# Altium schematic symbol library ReviewedComponents_20260912-233454.SchLib: 61 symbols (part 1 of 2)
Pins are listed as number, name and electrical type; pins without a type are passive.

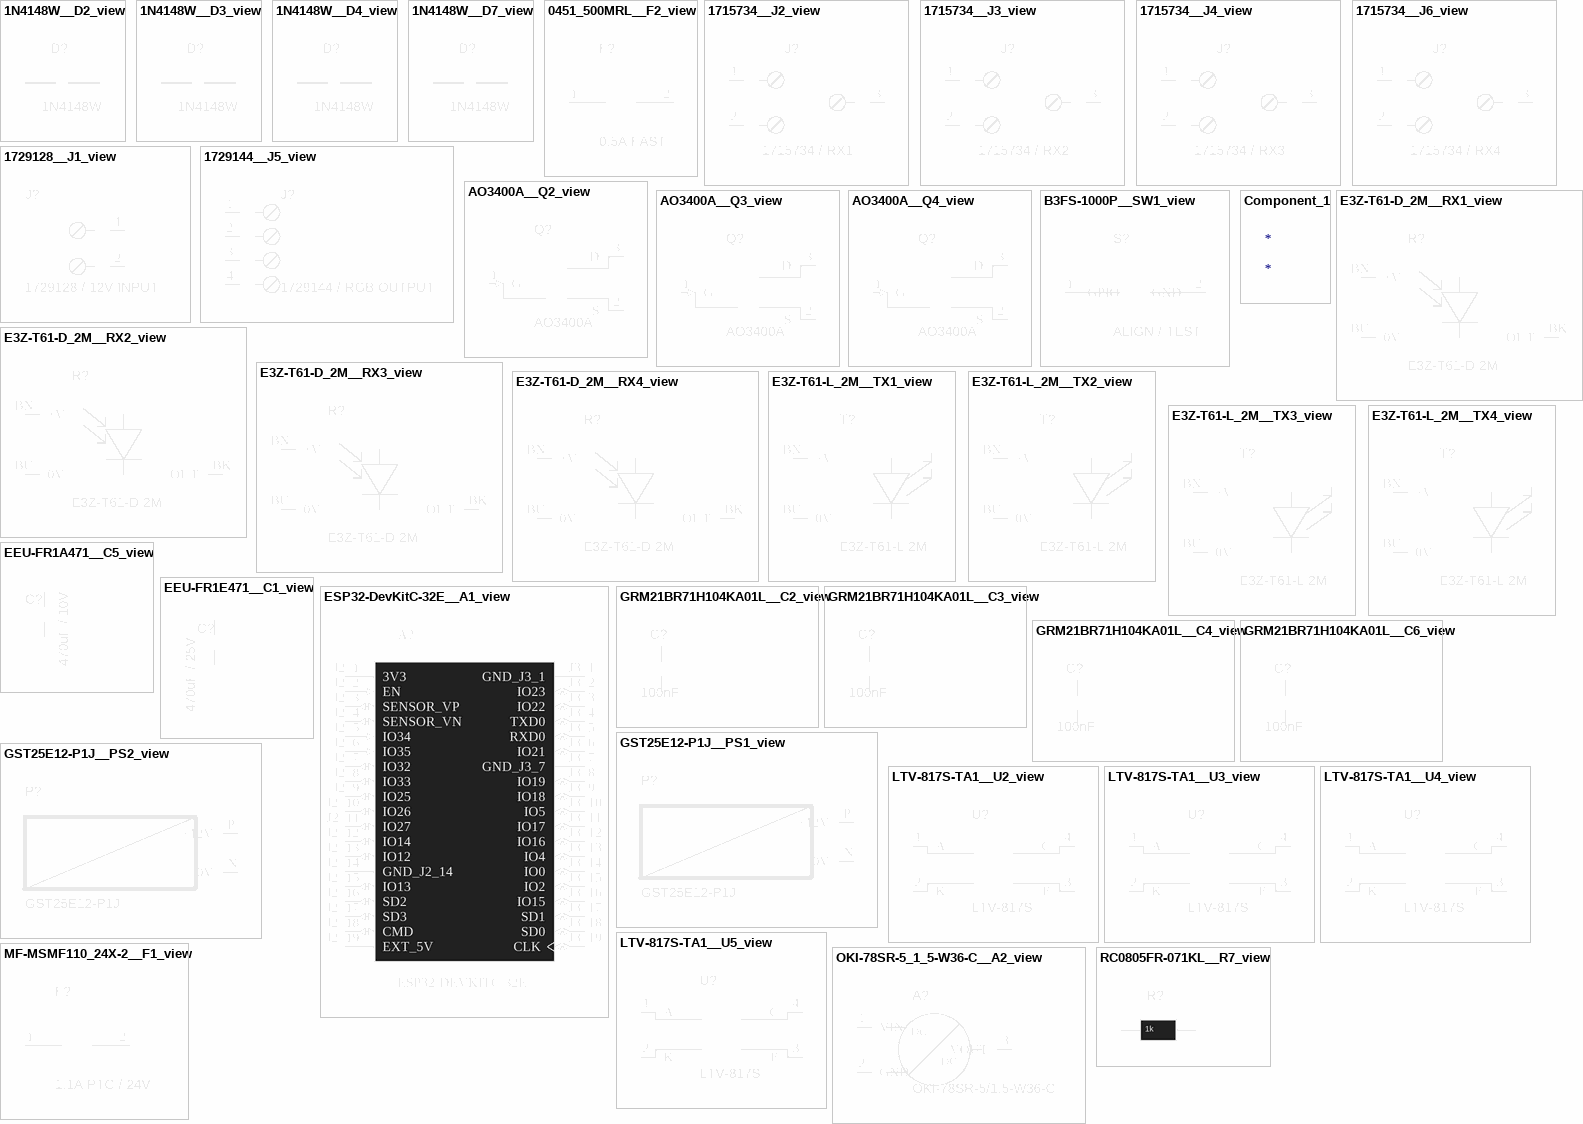
[diagram p0: symbols 1N4148W__D2_view to RC0805FR-071KL__R7_view]

## 1N4148W__D2_view
designator D?, comment 1N4148W
Reverse clamp: A to SIG; K to opto LED anode; Manufacturer: Nexperia; Symbol source: Celestial / Mark Harris / SCH - DIODES - DIODE.SCHLIB / Diode; Intended footprint: 1N4148W_SOD123_A1_K2; CAD status: Reusable reviewed symbol; pin/pad check performed by refresh. Native ERC, PCB ECO and 3D mechanical inspection still required.; Component refresh: 2026-09-10 sourced-symbol pass; not manufacturing release; Symbol adaptation: Import Celestial symbol artwork; retain physical pin identities and positions; lead extensions adapt the symbol to existing wiring.; Value: 1N4148W; Part Number: 1N4148W; Manufacturer Part Number: 1N4148W; Footprint source: Local PinRepairFootprints.PcbLib; source and polarity checked
footprint 1N4148W_SOD123_A1_K2
pins: 1 A, 2 K

## 1N4148W__D3_view
designator D?, comment 1N4148W
Reverse clamp: A to SIG; K to opto LED anode; Manufacturer: Nexperia; Symbol source: Celestial / Mark Harris / SCH - DIODES - DIODE.SCHLIB / Diode; Intended footprint: 1N4148W_SOD123_A1_K2; CAD status: Reusable reviewed symbol; pin/pad check performed by refresh. Native ERC, PCB ECO and 3D mechanical inspection still required.; Component refresh: 2026-09-10 sourced-symbol pass; not manufacturing release; Symbol adaptation: Import Celestial symbol artwork; retain physical pin identities and positions; lead extensions adapt the symbol to existing wiring.; Value: 1N4148W; Part Number: 1N4148W; Manufacturer Part Number: 1N4148W; Footprint source: Local PinRepairFootprints.PcbLib; source and polarity checked
footprint 1N4148W_SOD123_A1_K2
pins: 1 A, 2 K

## 1N4148W__D4_view
designator D?, comment 1N4148W
Reverse clamp: A to SIG; K to opto LED anode; Manufacturer: Nexperia; Symbol source: Celestial / Mark Harris / SCH - DIODES - DIODE.SCHLIB / Diode; Intended footprint: 1N4148W_SOD123_A1_K2; CAD status: Reusable reviewed symbol; pin/pad check performed by refresh. Native ERC, PCB ECO and 3D mechanical inspection still required.; Component refresh: 2026-09-10 sourced-symbol pass; not manufacturing release; Symbol adaptation: Import Celestial symbol artwork; retain physical pin identities and positions; lead extensions adapt the symbol to existing wiring.; Value: 1N4148W; Part Number: 1N4148W; Manufacturer Part Number: 1N4148W; Footprint source: Local PinRepairFootprints.PcbLib; source and polarity checked
footprint 1N4148W_SOD123_A1_K2
pins: 1 A, 2 K

## 1N4148W__D7_view
designator D?, comment 1N4148W
Reverse clamp: A to SIG; K to opto LED anode; Manufacturer: Nexperia; Symbol source: Celestial / Mark Harris / SCH - DIODES - DIODE.SCHLIB / Diode; Intended footprint: 1N4148W_SOD123_A1_K2; CAD status: Reusable reviewed symbol; pin/pad check performed by refresh. Native ERC, PCB ECO and 3D mechanical inspection still required.; Component refresh: 2026-09-10 sourced-symbol pass; not manufacturing release; Symbol adaptation: Import Celestial symbol artwork; retain physical pin identities and positions; lead extensions adapt the symbol to existing wiring.; Value: 1N4148W; Part Number: 1N4148W; Manufacturer Part Number: 1N4148W; Footprint source: Local PinRepairFootprints.PcbLib; source and polarity checked
footprint 1N4148W_SOD123_A1_K2
pins: 1 A, 2 K

## 0451_500MRL__F2_view
designator F?, comment 0.5A FAST
RGB cable branch fuse; verify fault clearing with selected supply; Manufacturer: Littelfuse; Manufacturer Part Number: 0451.500MRL; Populate: Yes; Intended footprint: LITTELFUSE_0451_2410; CAD status: Reusable reviewed symbol; pin/pad check performed by refresh. Native ERC, PCB ECO and 3D mechanical inspection still required.; Value: 0451.500MRL; Component refresh: 2026-09-10 sourced-symbol pass; not manufacturing release; Symbol source: Celestial / Mark Harris / SCH - FUSE - MOUNTED FUSE.Schlib / MOUNTED FUSE; Symbol adaptation: Import Celestial symbol artwork; retain physical pin identities and positions; lead extensions adapt the symbol to existing wiring.; Package: FUSE_2410; Footprint source: Local PinRepairFootprints.PcbLib; source and polarity checked; Part Number: 0451.500MRL
footprint LITTELFUSE_0451_2410
pins: 1, 2

## 1715734__J2_view
designator J?, comment 1715734 / RX1
12V / GND / NPN signal terminal; Manufacturer: Phoenix Contact; Populate: Yes; Intended footprint: PHOENIX_1715734_MKDS_3_508; CAD status: Reusable reviewed symbol; pin/pad check performed by refresh. Native ERC, PCB ECO and 3D mechanical inspection still required.; Wiring: 1 brown +12V; 2 blue 0V; 3 black NPN output; Symbol provenance: Project-authored native Altium library; based on identified manufacturer part and pinout, not vendor-issued CAD; Component refresh: 2026-09-10 sourced-symbol pass; not manufacturing release; Symbol adaptation: Keep existing part-specific symbol; package and procurement metadata retained.; Manufacturer Part Number: 1715734; Package: MKDS 1,5/3-5,08; Datasheet: https://www.phoenixcontact.com/en-us/products/printed-circuit-board-terminal-mkds-15-3-508-1715734; Part Number: 1715734; Value: 1715734
footprint PHOENIX_1715734_MKDS_3_508
pins: 1 +12V, 2 0V, 3 OUT

## 1715734__J3_view
designator J?, comment 1715734 / RX2
12V / GND / NPN signal terminal; Manufacturer: Phoenix Contact; Populate: Yes; Intended footprint: PHOENIX_1715734_MKDS_3_508; CAD status: Reusable reviewed symbol; pin/pad check performed by refresh. Native ERC, PCB ECO and 3D mechanical inspection still required.; Wiring: 1 brown +12V; 2 blue 0V; 3 black NPN output; Symbol provenance: Project-authored native Altium library; based on identified manufacturer part and pinout, not vendor-issued CAD; Component refresh: 2026-09-10 sourced-symbol pass; not manufacturing release; Symbol adaptation: Keep existing part-specific symbol; package and procurement metadata retained.; Manufacturer Part Number: 1715734; Package: MKDS 1,5/3-5,08; Datasheet: https://www.phoenixcontact.com/en-us/products/printed-circuit-board-terminal-mkds-15-3-508-1715734; Part Number: 1715734; Value: 1715734
footprint PHOENIX_1715734_MKDS_3_508
pins: 1 +12V, 2 0V, 3 OUT

## 1715734__J4_view
designator J?, comment 1715734 / RX3
12V / GND / NPN signal terminal; Manufacturer: Phoenix Contact; Populate: Yes; Intended footprint: PHOENIX_1715734_MKDS_3_508; CAD status: Reusable reviewed symbol; pin/pad check performed by refresh. Native ERC, PCB ECO and 3D mechanical inspection still required.; Wiring: 1 brown +12V; 2 blue 0V; 3 black NPN output; Symbol provenance: Project-authored native Altium library; based on identified manufacturer part and pinout, not vendor-issued CAD; Component refresh: 2026-09-10 sourced-symbol pass; not manufacturing release; Symbol adaptation: Keep existing part-specific symbol; package and procurement metadata retained.; Manufacturer Part Number: 1715734; Package: MKDS 1,5/3-5,08; Datasheet: https://www.phoenixcontact.com/en-us/products/printed-circuit-board-terminal-mkds-15-3-508-1715734; Part Number: 1715734; Value: 1715734
footprint PHOENIX_1715734_MKDS_3_508
pins: 1 +12V, 2 0V, 3 OUT

## 1715734__J6_view
designator J?, comment 1715734 / RX4
12V / GND / NPN signal terminal; Manufacturer: Phoenix Contact; Populate: Yes; Intended footprint: PHOENIX_1715734_MKDS_3_508; CAD status: Reusable reviewed symbol; pin/pad check performed by refresh. Native ERC, PCB ECO and 3D mechanical inspection still required.; Wiring: 1 brown +12V; 2 blue 0V; 3 black NPN output; Symbol provenance: Project-authored native Altium library; based on identified manufacturer part and pinout, not vendor-issued CAD; Component refresh: 2026-09-10 sourced-symbol pass; not manufacturing release; Symbol adaptation: Keep existing part-specific symbol; package and procurement metadata retained.; Manufacturer Part Number: 1715734; Package: MKDS 1,5/3-5,08; Datasheet: https://www.phoenixcontact.com/en-us/products/printed-circuit-board-terminal-mkds-15-3-508-1715734; Part Number: 1715734; Value: 1715734
footprint PHOENIX_1715734_MKDS_3_508
pins: 1 +12V, 2 0V, 3 OUT

## 1729128__J1_view
designator J?, comment 1729128 / 12V INPUT
Two-position 5.08 mm screw terminal; Manufacturer: Phoenix Contact; Populate: Yes; Intended footprint: PHOENIX_1729128_MKDSN_2_508; CAD status: Reusable reviewed symbol; pin/pad check performed by refresh. Native ERC, PCB ECO and 3D mechanical inspection still required.; Symbol provenance: Project-authored native Altium library; based on identified manufacturer part and pinout, not vendor-issued CAD; Component refresh: 2026-09-10 sourced-symbol pass; not manufacturing release; Symbol adaptation: Keep existing part-specific symbol; package and procurement metadata retained.; Manufacturer Part Number: 1729128; Package: TERM_2_508; Part Number: 1729128; Value: 1729128
footprint PHOENIX_1729128_MKDSN_2_508
pins: 1 +12V (power), 2 0V (power)

## 1729144__J5_view
designator J?, comment 1729144 / RGB OUTPUT
Common-anode analogue RGB strip; NOT addressable; Manufacturer: Phoenix Contact; Populate: Yes; Intended footprint: PHOENIX_1729144_MKDSN_4_508; CAD status: Reusable reviewed symbol; pin/pad check performed by refresh. Native ERC, PCB ECO and 3D mechanical inspection still required.; Symbol provenance: Project-authored native Altium library; based on identified manufacturer part and pinout, not vendor-issued CAD; Component refresh: 2026-09-10 sourced-symbol pass; not manufacturing release; Symbol adaptation: Keep existing part-specific symbol; package and procurement metadata retained.; Manufacturer Part Number: 1729144; Package: TERM_4_508; Part Number: 1729144; Value: 1729144
footprint PHOENIX_1729144_MKDSN_4_508
pins: 1 +12V (power), 2 R-, 3 G-, 4 B-

## AO3400A__Q2_view
designator Q?, comment AO3400A
30V NMOS; Rds(on) specified at Vgs=2.5V; limit load to 250mA/channel; Manufacturer: Alpha and Omega Semiconductor; Populate: Yes; Intended footprint: AO3400A_G1_S2_D3; CAD status: Reusable reviewed symbol; pin/pad check performed by refresh. Native ERC, PCB ECO and 3D mechanical inspection still required.; 3D asset: lib/upstream-kicad/SOT-23.step; downloaded, native link pending; Component refresh: 2026-09-10 sourced-symbol pass; not manufacturing release; Symbol source: Celestial / Mark Harris / SCH - FET - N-CH - MOSFET SINGLE GDS.SCHLIB / MOSFET SINGLE GDS; Symbol adaptation: Import Celestial symbol artwork; retain physical pin identities and positions; lead extensions adapt the symbol to existing wiring.; Manufacturer Part Number: AO3400A; Package: Package_TO_SOT_SMD:SOT-23; Datasheet: https://www.aosmd.com/sites/default/files/res/datasheets/AO3400A.pdf; Footprint source: Local PinRepairFootprints.PcbLib; source and polarity checked; Part Number: AO3400A; Value: AO3400A
footprint AO3400A_G1_S2_D3
pins: 1 G (in), 2 S, 3 D

## AO3400A__Q3_view
designator Q?, comment AO3400A
30V NMOS; Rds(on) specified at Vgs=2.5V; limit load to 250mA/channel; Manufacturer: Alpha and Omega Semiconductor; Populate: Yes; Intended footprint: AO3400A_G1_S2_D3; CAD status: Reusable reviewed symbol; pin/pad check performed by refresh. Native ERC, PCB ECO and 3D mechanical inspection still required.; 3D asset: lib/upstream-kicad/SOT-23.step; downloaded, native link pending; Component refresh: 2026-09-10 sourced-symbol pass; not manufacturing release; Symbol source: Celestial / Mark Harris / SCH - FET - N-CH - MOSFET SINGLE GDS.SCHLIB / MOSFET SINGLE GDS; Symbol adaptation: Import Celestial symbol artwork; retain physical pin identities and positions; lead extensions adapt the symbol to existing wiring.; Manufacturer Part Number: AO3400A; Package: Package_TO_SOT_SMD:SOT-23; Datasheet: https://www.aosmd.com/sites/default/files/res/datasheets/AO3400A.pdf; Footprint source: Local PinRepairFootprints.PcbLib; source and polarity checked; Part Number: AO3400A; Value: AO3400A
footprint AO3400A_G1_S2_D3
pins: 1 G (in), 2 S, 3 D

## AO3400A__Q4_view
designator Q?, comment AO3400A
30V NMOS; Rds(on) specified at Vgs=2.5V; limit load to 250mA/channel; Manufacturer: Alpha and Omega Semiconductor; Populate: Yes; Intended footprint: AO3400A_G1_S2_D3; CAD status: Reusable reviewed symbol; pin/pad check performed by refresh. Native ERC, PCB ECO and 3D mechanical inspection still required.; 3D asset: lib/upstream-kicad/SOT-23.step; downloaded, native link pending; Component refresh: 2026-09-10 sourced-symbol pass; not manufacturing release; Symbol source: Celestial / Mark Harris / SCH - FET - N-CH - MOSFET SINGLE GDS.SCHLIB / MOSFET SINGLE GDS; Symbol adaptation: Import Celestial symbol artwork; retain physical pin identities and positions; lead extensions adapt the symbol to existing wiring.; Manufacturer Part Number: AO3400A; Package: Package_TO_SOT_SMD:SOT-23; Datasheet: https://www.aosmd.com/sites/default/files/res/datasheets/AO3400A.pdf; Footprint source: Local PinRepairFootprints.PcbLib; source and polarity checked; Part Number: AO3400A; Value: AO3400A
footprint AO3400A_G1_S2_D3
pins: 1 G (in), 2 S, 3 D

## B3FS-1000P__SW1_view
designator S?, comment ALIGN / TEST
Momentary test switch; Manufacturer: Omron; Manufacturer Part Number: B3FS-1000P; Populate: Yes; Intended footprint: OMRON_B3FS1000P_LOGICAL_1_2; CAD status: Reusable reviewed symbol; pin/pad check performed by refresh. Native ERC, PCB ECO and 3D mechanical inspection still required.; Value: B3FS-1000P; Component refresh: 2026-09-10 sourced-symbol pass; not manufacturing release; Symbol source: Celestial / Mark Harris / SCH - SWITCH - SPST 2PIN.SCHLIB / SPST 2PIN; Symbol adaptation: Import Celestial symbol artwork; retain physical pin identities and positions; lead extensions adapt the symbol to existing wiring.; Package: SW_SMD_6X6; Footprint source: Local PinRepairFootprints.PcbLib; source and polarity checked; Part Number: B3FS-1000P
footprint OMRON_B3FS1000P_LOGICAL_1_2
pins: 1 GPIO, 2 GND

## Component_1
designator *

## E3Z-T61-D_2M__RX1_view
designator R?, comment E3Z-T61-D 2M  (graphical)
RECEIVER / NPN LIGHT-ON; purchased in E3Z-T61 2M pair; frame-mounted, not PCB-mounted; Manufacturer: Omron; Populate: Yes; Intended footprint: NONE - external wired device; CAD status: External equipment symbol: no controller-PCB pads; mechanical CAD remains unverified.; Cable: Integral 2 m cable; BN brown +V / BU blue 0V / receiver BK black OUT; Supply: 12-24 VDC nominal; use regulated 12 V; BOM note: Buy one E3Z-T61 2M pair per TX/RX pair, not two pairs; Symbol representation: Complete powered photoelectric head; optical glyph is functional, not a bare discrete diode; Symbol provenance: Project-authored native Altium library; based on identified manufacturer part and pinout, not vendor-issued CAD; Assembly location: External installation; not mounted on controller PCB; Procurement list: docs/PIN_REPAIR.html - external hardware; Component refresh: 2026-09-10 sourced-symbol pass; not manufacturing release; Symbol adaptation: Keep existing part-specific symbol; package and procurement metadata retained. External equipment: deliberately no PCB footprint. Manufacturer mechanical CAD remains separate/unverified.; Manufacturer Part Number: E3Z-T61-D 2M; Package: EXTERNAL CABLED HEAD; Order as pair: E3Z-T61 2M; Body dimensions mm: 10.8 W x 31 H x 20 D; Mounting: Two M3 holes at 25.4 mm centres; optical face toward opposite upright; Datasheet: https://industrial.omron.eu/en/products/E3Z-T61-2M; 3D download: https://download.ia.omron.com/download/zip/ST/OEE/E3Z_T61/; Part Number: E3Z-T61-D 2M; Value: E3Z-T61-D 2M; Valor: E3Z-T61-D 2M
pins: BK OUT, BN +V, BU 0V

## E3Z-T61-D_2M__RX2_view
designator R?, comment E3Z-T61-D 2M  (graphical)
RECEIVER / NPN LIGHT-ON; purchased in E3Z-T61 2M pair; frame-mounted, not PCB-mounted; Manufacturer: Omron; Populate: Yes; Intended footprint: NONE - external wired device; CAD status: External equipment symbol: no controller-PCB pads; mechanical CAD remains unverified.; Cable: Integral 2 m cable; BN brown +V / BU blue 0V / receiver BK black OUT; Supply: 12-24 VDC nominal; use regulated 12 V; BOM note: Buy one E3Z-T61 2M pair per TX/RX pair, not two pairs; Symbol representation: Complete powered photoelectric head; optical glyph is functional, not a bare discrete diode; Symbol provenance: Project-authored native Altium library; based on identified manufacturer part and pinout, not vendor-issued CAD; Assembly location: External installation; not mounted on controller PCB; Procurement list: docs/PIN_REPAIR.html - external hardware; Component refresh: 2026-09-10 sourced-symbol pass; not manufacturing release; Symbol adaptation: Keep existing part-specific symbol; package and procurement metadata retained. External equipment: deliberately no PCB footprint. Manufacturer mechanical CAD remains separate/unverified.; Manufacturer Part Number: E3Z-T61-D 2M; Package: EXTERNAL CABLED HEAD; Order as pair: E3Z-T61 2M; Body dimensions mm: 10.8 W x 31 H x 20 D; Mounting: Two M3 holes at 25.4 mm centres; optical face toward opposite upright; Datasheet: https://industrial.omron.eu/en/products/E3Z-T61-2M; 3D download: https://download.ia.omron.com/download/zip/ST/OEE/E3Z_T61/; Part Number: E3Z-T61-D 2M; Value: E3Z-T61-D 2M; Valor: E3Z-T61-D 2M
pins: BK OUT, BN +V, BU 0V

## E3Z-T61-D_2M__RX3_view
designator R?, comment E3Z-T61-D 2M  (graphical)
RECEIVER / NPN LIGHT-ON; purchased in E3Z-T61 2M pair; frame-mounted, not PCB-mounted; Manufacturer: Omron; Populate: Yes; Intended footprint: NONE - external wired device; CAD status: External equipment symbol: no controller-PCB pads; mechanical CAD remains unverified.; Cable: Integral 2 m cable; BN brown +V / BU blue 0V / receiver BK black OUT; Supply: 12-24 VDC nominal; use regulated 12 V; BOM note: Buy one E3Z-T61 2M pair per TX/RX pair, not two pairs; Symbol representation: Complete powered photoelectric head; optical glyph is functional, not a bare discrete diode; Symbol provenance: Project-authored native Altium library; based on identified manufacturer part and pinout, not vendor-issued CAD; Assembly location: External installation; not mounted on controller PCB; Procurement list: docs/PIN_REPAIR.html - external hardware; Component refresh: 2026-09-10 sourced-symbol pass; not manufacturing release; Symbol adaptation: Keep existing part-specific symbol; package and procurement metadata retained. External equipment: deliberately no PCB footprint. Manufacturer mechanical CAD remains separate/unverified.; Manufacturer Part Number: E3Z-T61-D 2M; Package: EXTERNAL CABLED HEAD; Order as pair: E3Z-T61 2M; Body dimensions mm: 10.8 W x 31 H x 20 D; Mounting: Two M3 holes at 25.4 mm centres; optical face toward opposite upright; Datasheet: https://industrial.omron.eu/en/products/E3Z-T61-2M; 3D download: https://download.ia.omron.com/download/zip/ST/OEE/E3Z_T61/; Part Number: E3Z-T61-D 2M; Value: E3Z-T61-D 2M; Valor: E3Z-T61-D 2M
pins: BK OUT, BN +V, BU 0V

## E3Z-T61-D_2M__RX4_view
designator R?, comment E3Z-T61-D 2M  (graphical)
RECEIVER / NPN LIGHT-ON; purchased in E3Z-T61 2M pair; frame-mounted, not PCB-mounted; Manufacturer: Omron; Populate: Optional channel 4; Intended footprint: NONE - external wired device; CAD status: External equipment symbol: no controller-PCB pads; mechanical CAD remains unverified.; Cable: Integral 2 m cable; BN brown +V / BU blue 0V / receiver BK black OUT; Supply: 12-24 VDC nominal; use regulated 12 V; BOM note: Buy one E3Z-T61 2M pair per TX/RX pair, not two pairs; Symbol representation: Complete powered photoelectric head; optical glyph is functional, not a bare discrete diode; Symbol provenance: Project-authored native Altium library; based on identified manufacturer part and pinout, not vendor-issued CAD; Assembly location: External installation; not mounted on controller PCB; Procurement list: docs/PIN_REPAIR.html - external hardware; Component refresh: 2026-09-10 sourced-symbol pass; not manufacturing release; Symbol adaptation: Keep existing part-specific symbol; package and procurement metadata retained. External equipment: deliberately no PCB footprint. Manufacturer mechanical CAD remains separate/unverified.; Manufacturer Part Number: E3Z-T61-D 2M; Package: EXTERNAL CABLED HEAD; Order as pair: E3Z-T61 2M; Body dimensions mm: 10.8 W x 31 H x 20 D; Mounting: Two M3 holes at 25.4 mm centres; optical face toward opposite upright; Datasheet: https://industrial.omron.eu/en/products/E3Z-T61-2M; 3D download: https://download.ia.omron.com/download/zip/ST/OEE/E3Z_T61/; Part Number: E3Z-T61-D 2M; Value: E3Z-T61-D 2M; Valor: E3Z-T61-D 2M
pins: BK OUT, BN +V, BU 0V

## E3Z-T61-L_2M__TX1_view
designator T?, comment E3Z-T61-L 2M  (graphical)
EMITTER; purchased in E3Z-T61 2M pair; frame-mounted, not PCB-mounted; Manufacturer: Omron; Populate: Yes; Intended footprint: NONE - external wired device; CAD status: External equipment symbol: no controller-PCB pads; mechanical CAD remains unverified.; Cable: Integral 2 m cable; BN brown +V / BU blue 0V / receiver BK black OUT; Supply: 12-24 VDC nominal; use regulated 12 V; BOM note: Buy one E3Z-T61 2M pair per TX/RX pair, not two pairs; Symbol representation: Complete powered photoelectric head; optical glyph is functional, not a bare discrete diode; Symbol provenance: Project-authored native Altium library; based on identified manufacturer part and pinout, not vendor-issued CAD; Assembly location: External installation; not mounted on controller PCB; Procurement list: docs/PIN_REPAIR.html - external hardware; Component refresh: 2026-09-10 sourced-symbol pass; not manufacturing release; Symbol adaptation: Keep existing part-specific symbol; package and procurement metadata retained. External equipment: deliberately no PCB footprint. Manufacturer mechanical CAD remains separate/unverified.; Manufacturer Part Number: E3Z-T61-L 2M; Package: EXTERNAL CABLED HEAD; Order as pair: E3Z-T61 2M; Body dimensions mm: 10.8 W x 31 H x 20 D; Mounting: Two M3 holes at 25.4 mm centres; optical face toward opposite upright; Datasheet: https://industrial.omron.eu/en/products/E3Z-T61-2M; 3D download: https://download.ia.omron.com/download/zip/ST/OEE/E3Z_T61/; Part Number: E3Z-T61-L 2M; Value: E3Z-T61-L 2M
pins: BN +V, BU 0V

## E3Z-T61-L_2M__TX2_view
designator T?, comment E3Z-T61-L 2M  (graphical)
EMITTER; purchased in E3Z-T61 2M pair; frame-mounted, not PCB-mounted; Manufacturer: Omron; Populate: Yes; Intended footprint: NONE - external wired device; CAD status: External equipment symbol: no controller-PCB pads; mechanical CAD remains unverified.; Cable: Integral 2 m cable; BN brown +V / BU blue 0V / receiver BK black OUT; Supply: 12-24 VDC nominal; use regulated 12 V; BOM note: Buy one E3Z-T61 2M pair per TX/RX pair, not two pairs; Symbol representation: Complete powered photoelectric head; optical glyph is functional, not a bare discrete diode; Symbol provenance: Project-authored native Altium library; based on identified manufacturer part and pinout, not vendor-issued CAD; Assembly location: External installation; not mounted on controller PCB; Procurement list: docs/PIN_REPAIR.html - external hardware; Component refresh: 2026-09-10 sourced-symbol pass; not manufacturing release; Symbol adaptation: Keep existing part-specific symbol; package and procurement metadata retained. External equipment: deliberately no PCB footprint. Manufacturer mechanical CAD remains separate/unverified.; Manufacturer Part Number: E3Z-T61-L 2M; Package: EXTERNAL CABLED HEAD; Order as pair: E3Z-T61 2M; Body dimensions mm: 10.8 W x 31 H x 20 D; Mounting: Two M3 holes at 25.4 mm centres; optical face toward opposite upright; Datasheet: https://industrial.omron.eu/en/products/E3Z-T61-2M; 3D download: https://download.ia.omron.com/download/zip/ST/OEE/E3Z_T61/; Part Number: E3Z-T61-L 2M; Value: E3Z-T61-L 2M
pins: BN +V, BU 0V

## E3Z-T61-L_2M__TX3_view
designator T?, comment E3Z-T61-L 2M  (graphical)
EMITTER; purchased in E3Z-T61 2M pair; frame-mounted, not PCB-mounted; Manufacturer: Omron; Populate: Yes; Intended footprint: NONE - external wired device; CAD status: External equipment symbol: no controller-PCB pads; mechanical CAD remains unverified.; Cable: Integral 2 m cable; BN brown +V / BU blue 0V / receiver BK black OUT; Supply: 12-24 VDC nominal; use regulated 12 V; BOM note: Buy one E3Z-T61 2M pair per TX/RX pair, not two pairs; Symbol representation: Complete powered photoelectric head; optical glyph is functional, not a bare discrete diode; Symbol provenance: Project-authored native Altium library; based on identified manufacturer part and pinout, not vendor-issued CAD; Assembly location: External installation; not mounted on controller PCB; Procurement list: docs/PIN_REPAIR.html - external hardware; Component refresh: 2026-09-10 sourced-symbol pass; not manufacturing release; Symbol adaptation: Keep existing part-specific symbol; package and procurement metadata retained. External equipment: deliberately no PCB footprint. Manufacturer mechanical CAD remains separate/unverified.; Manufacturer Part Number: E3Z-T61-L 2M; Package: EXTERNAL CABLED HEAD; Order as pair: E3Z-T61 2M; Body dimensions mm: 10.8 W x 31 H x 20 D; Mounting: Two M3 holes at 25.4 mm centres; optical face toward opposite upright; Datasheet: https://industrial.omron.eu/en/products/E3Z-T61-2M; 3D download: https://download.ia.omron.com/download/zip/ST/OEE/E3Z_T61/; Part Number: E3Z-T61-L 2M; Value: E3Z-T61-L 2M
pins: BN +V, BU 0V

## E3Z-T61-L_2M__TX4_view
designator T?, comment E3Z-T61-L 2M  (graphical)
EMITTER; purchased in E3Z-T61 2M pair; frame-mounted, not PCB-mounted; Manufacturer: Omron; Populate: Optional channel 4; Intended footprint: NONE - external wired device; CAD status: External equipment symbol: no controller-PCB pads; mechanical CAD remains unverified.; Cable: Integral 2 m cable; BN brown +V / BU blue 0V / receiver BK black OUT; Supply: 12-24 VDC nominal; use regulated 12 V; BOM note: Buy one E3Z-T61 2M pair per TX/RX pair, not two pairs; Symbol representation: Complete powered photoelectric head; optical glyph is functional, not a bare discrete diode; Symbol provenance: Project-authored native Altium library; based on identified manufacturer part and pinout, not vendor-issued CAD; Assembly location: External installation; not mounted on controller PCB; Procurement list: docs/PIN_REPAIR.html - external hardware; Component refresh: 2026-09-10 sourced-symbol pass; not manufacturing release; Symbol adaptation: Keep existing part-specific symbol; package and procurement metadata retained. External equipment: deliberately no PCB footprint. Manufacturer mechanical CAD remains separate/unverified.; Manufacturer Part Number: E3Z-T61-L 2M; Package: EXTERNAL CABLED HEAD; Order as pair: E3Z-T61 2M; Body dimensions mm: 10.8 W x 31 H x 20 D; Mounting: Two M3 holes at 25.4 mm centres; optical face toward opposite upright; Datasheet: https://industrial.omron.eu/en/products/E3Z-T61-2M; 3D download: https://download.ia.omron.com/download/zip/ST/OEE/E3Z_T61/; Part Number: E3Z-T61-L 2M; Value: E3Z-T61-L 2M
pins: BN +V, BU 0V

## EEU-FR1A471__C5_view
designator C?, comment 470uF / 10V
ESP32 Wi-Fi peak-current reservoir; Part Number: EEU-FR1A471; Manufacturer: Panasonic; Symbol source: Celestial / Mark Harris / SCH - PASSIVES - POLARISED CAPACITOR.SCHLIB / Polarised Capacitor; Intended footprint: PANASONIC_EEUFR1A471_D8_P3_5; CAD status: Reusable reviewed symbol; pin/pad check performed by refresh. Native ERC, PCB ECO and 3D mechanical inspection still required.; Polarity: Pin 1 positive; pin 2 negative; Component refresh: 2026-09-10 sourced-symbol pass; not manufacturing release; Symbol adaptation: Import Celestial symbol artwork; retain physical pin identities and positions; lead extensions adapt the symbol to existing wiring.; Valor: 470uF / 10V; Manufacturer Part Number: EEU-FR1A471; Footprint source: Local PinRepairFootprints.PcbLib; source and polarity checked; Value: 470uF / 10V
footprint PANASONIC_EEUFR1A471_D8_P3_5
pins: 1, 2
1 alternate drawing of the same symbol

## EEU-FR1E471__C1_view
designator C?, comment 470uF / 25V
Protected 12 V bulk capacitor; Part Number: EEU-FR1E471; Manufacturer: Panasonic; Symbol source: Celestial / Mark Harris / SCH - PASSIVES - POLARISED CAPACITOR.SCHLIB / Polarised Capacitor; Intended footprint: PANASONIC_EEUFR1E471_D10_P5; CAD status: Reusable reviewed symbol; pin/pad check performed by refresh. Native ERC, PCB ECO and 3D mechanical inspection still required.; Polarity: Pin 1 positive; pin 2 negative; Component refresh: 2026-09-10 sourced-symbol pass; not manufacturing release; Symbol adaptation: Import Celestial symbol artwork; retain physical pin identities and positions; lead extensions adapt the symbol to existing wiring.; Valor: 470uF / 25V; Manufacturer Part Number: EEU-FR1E471; Footprint source: Local PinRepairFootprints.PcbLib; source and polarity checked; Value: 470uF / 25V
footprint PANASONIC_EEUFR1E471_D10_P5
pins: 1, 2
1 alternate drawing of the same symbol

## ESP32-DevKitC-32E__A1_view
designator A?, comment ESP32-DEVKITC-32E
The ESP32-DEVKITC-32E transceiver evaluation board from Espressif Systems is a powerful development tool for wireless communication technologies. It supports 802.11 b/g/n Wi-Fi and BluetoothÂ® Smart Ready 4.x (BLE) dual-mode at 2.4GHz, making it ideal for; CAD status: Reusable reviewed symbol; pin/pad check performed by refresh. Native ERC, PCB ECO and 3D mechanical inspection still required.; Component refresh: 2026-09-10 sourced-symbol pass; not manufacturing release; Intended footprint: MODULE_ESP32-DEVKITC-32E; Symbol adaptation: Keep existing part-specific symbol; package and procurement metadata retained.; SnapEDA_Link: https://www.snapeda.com/parts/ESP32-DEVKITC-32E/Espressif+Systems/view-part/?ref=snap; Package: None; Value: ESP32-DevKitC-32E; MF: Espressif Systems; MP: ESP32-DEVKITC-32E; Check_prices: https://www.snapeda.com/parts/ESP32-DEVKITC-32E/Espressif+Systems/view-part/?ref=eda; Manufacturer: Espressif Systems; Manufacturer Part Number: ESP32-DevKitC-32E; Part Number: ESP32-DevKitC-32E
footprint MODULE_ESP32-DEVKITC-32E
pins: J2_1 3V3 (power), J2_2 EN (in), J2_3 SENSOR_VP (io), J2_4 SENSOR_VN (io), J2_5 IO34 (in), J2_6 IO35 (in), J2_7 IO32 (io), J2_8 IO33 (io), J2_9 IO25 (io), J2_10 IO26 (io), J2_11 IO27 (io), J2_12 IO14 (io), J2_13 IO12 (io), J2_14 GND_J2_14 (power), J2_15 IO13 (io), J2_16 SD2 (io), J2_17 SD3 (io), J2_18 CMD (io), J2_19 EXT_5V (power), J3_1 GND_J3_1 (power), J3_2 IO23 (io), J3_3 IO22 (io), J3_4 TXD0 (io), J3_5 RXD0 (io), J3_6 IO21 (io), J3_7 GND_J3_7 (power), J3_8 IO19 (io), J3_9 IO18 (io), J3_10 IO5 (io), J3_11 IO17 (io), J3_12 IO16 (io), J3_13 IO4 (io), J3_14 IO0 (io), J3_15 IO2 (io), J3_16 IO15 (io), J3_17 SD1 (io), J3_18 SD0 (io), J3_19 CLK (io)

## GRM21BR71H104KA01L__C2_view
designator C?, comment 100nF
Input RC filter; Part Number: GRM21BR71H104KA01L; Manufacturer: Murata; Symbol source: Celestial / Mark Harris / SCH - PASSIVES - CAPACITOR.SCHLIB / Capacitor; Intended footprint: MURATA GRM21B 0805_2012; CAD status: Reusable reviewed symbol; pin/pad check performed by refresh. Native ERC, PCB ECO and 3D mechanical inspection still required.; Component refresh: 2026-09-10 sourced-symbol pass; not manufacturing release; Symbol adaptation: Import Celestial symbol artwork; retain physical pin identities and positions; lead extensions adapt the symbol to existing wiring.; Valor: 100nF; Manufacturer Part Number: GRM21BR71H104KA01L; Footprint source: Celestial Altium Library / Mark Harris / https://altiumlibrary.com; Value: 100nF
footprint MURATA GRM21B 0805_2012
pins: 1, 2
1 alternate drawing of the same symbol

## GRM21BR71H104KA01L__C3_view
designator C?, comment 100nF
Input RC filter; Part Number: GRM21BR71H104KA01L; Manufacturer: Murata; Symbol source: Celestial / Mark Harris / SCH - PASSIVES - CAPACITOR.SCHLIB / Capacitor; Intended footprint: MURATA GRM21B 0805_2012; CAD status: Reusable reviewed symbol; pin/pad check performed by refresh. Native ERC, PCB ECO and 3D mechanical inspection still required.; Component refresh: 2026-09-10 sourced-symbol pass; not manufacturing release; Symbol adaptation: Import Celestial symbol artwork; retain physical pin identities and positions; lead extensions adapt the symbol to existing wiring.; Valor: 100nF; Manufacturer Part Number: GRM21BR71H104KA01L; Footprint source: Celestial Altium Library / Mark Harris / https://altiumlibrary.com; Value: 100nF
footprint MURATA GRM21B 0805_2012
pins: 1, 2
1 alternate drawing of the same symbol

## GRM21BR71H104KA01L__C4_view
designator C?, comment 100nF
Input RC filter; Part Number: GRM21BR71H104KA01L; Manufacturer: Murata; Symbol source: Celestial / Mark Harris / SCH - PASSIVES - CAPACITOR.SCHLIB / Capacitor; Intended footprint: MURATA GRM21B 0805_2012; CAD status: Reusable reviewed symbol; pin/pad check performed by refresh. Native ERC, PCB ECO and 3D mechanical inspection still required.; Component refresh: 2026-09-10 sourced-symbol pass; not manufacturing release; Symbol adaptation: Import Celestial symbol artwork; retain physical pin identities and positions; lead extensions adapt the symbol to existing wiring.; Valor: 100nF; Manufacturer Part Number: GRM21BR71H104KA01L; Footprint source: Celestial Altium Library / Mark Harris / https://altiumlibrary.com; Value: 100nF
footprint MURATA GRM21B 0805_2012
pins: 1, 2
1 alternate drawing of the same symbol

## GRM21BR71H104KA01L__C6_view
designator C?, comment 100nF
Input RC filter; Part Number: GRM21BR71H104KA01L; Manufacturer: Murata; Symbol source: Celestial / Mark Harris / SCH - PASSIVES - CAPACITOR.SCHLIB / Capacitor; Intended footprint: MURATA GRM21B 0805_2012; CAD status: Reusable reviewed symbol; pin/pad check performed by refresh. Native ERC, PCB ECO and 3D mechanical inspection still required.; Component refresh: 2026-09-10 sourced-symbol pass; not manufacturing release; Symbol adaptation: Import Celestial symbol artwork; retain physical pin identities and positions; lead extensions adapt the symbol to existing wiring.; Valor: 100nF; Manufacturer Part Number: GRM21BR71H104KA01L; Footprint source: Celestial Altium Library / Mark Harris / https://altiumlibrary.com; Value: 100nF
footprint MURATA GRM21B 0805_2012
pins: 1, 2
1 alternate drawing of the same symbol

## GST25E12-P1J__PS1_view
designator P?, comment GST25E12-P1J  (graphical)
Intact certified AC/DC adapter, 12 V 2.08 A; Manufacturer: MEAN WELL; Populate: Yes; Intended footprint: NONE - external plug-in adapter; CAD status: External equipment symbol: no controller-PCB pads; mechanical CAD remains unverified.; DC connector: 5.5 x 2.1 mm centre positive; keep adapter intact; Assembly location: External installation; not mounted on controller PCB; Procurement list: docs/PIN_REPAIR.html - external hardware; Component refresh: 2026-09-10 sourced-symbol pass; not manufacturing release; Symbol adaptation: Keep existing part-specific symbol; package and procurement metadata retained. External equipment: deliberately no PCB footprint. Manufacturer mechanical CAD remains separate/unverified.; Manufacturer Part Number: GST25E12-P1J; Package: EXTERNAL EQUIPMENT; Datasheet: https://www.meanwell.com/Upload/PDF/GST25E/GST25E-SPEC.PDF; Part Number: GST25E12-P1J; Value: GST25E12-P1J
pins: N 0V, P +12V

## GST25E12-P1J__PS2_view
designator P?, comment GST25E12-P1J  (graphical)
Intact certified AC/DC adapter, 12 V 2.08 A; Manufacturer: MEAN WELL; Populate: Yes; Intended footprint: NONE - external plug-in adapter; CAD status: External equipment symbol: no controller-PCB pads; mechanical CAD remains unverified.; DC connector: 5.5 x 2.1 mm centre positive; keep adapter intact; Assembly location: External installation; not mounted on controller PCB; Procurement list: docs/PIN_REPAIR.html - external hardware; Component refresh: 2026-09-10 sourced-symbol pass; not manufacturing release; Symbol adaptation: Keep existing part-specific symbol; package and procurement metadata retained. External equipment: deliberately no PCB footprint. Manufacturer mechanical CAD remains separate/unverified.; Manufacturer Part Number: GST25E12-P1J; Package: EXTERNAL EQUIPMENT; Datasheet: https://www.meanwell.com/Upload/PDF/GST25E/GST25E-SPEC.PDF; Part Number: GST25E12-P1J; Value: GST25E12-P1J
pins: N 0V, P +12V

## LTV-817S-TA1__U2_view
designator U?, comment LTV-817S
Phototransistor optocoupler; Manufacturer: Lite-On; Manufacturer Part Number: LTV-817S-TA1; Populate: Yes; Intended footprint: LITEON LTV-817; CAD status: Reusable reviewed symbol; pin/pad check performed by refresh. Native ERC, PCB ECO and 3D mechanical inspection still required.; Value: LTV-817S-TA1; Component refresh: 2026-09-10 sourced-symbol pass; not manufacturing release; Symbol source: Celestial / Mark Harris / SCH - OPTOISOLATORS - OPTOISOLATOR.SCHLIB / Optoisolator; Symbol adaptation: Import Celestial symbol artwork; retain physical pin identities and positions; lead extensions adapt the symbol to existing wiring.; Package: SMD4; Footprint source: Celestial Altium Library / Mark Harris / https://altiumlibrary.com; Valor: LTV-817S; Part Number: LTV-817S-TA1
footprint LITEON LTV-817
pins: 1 A, 2 K, 3 E, 4 C (oc)

## LTV-817S-TA1__U3_view
designator U?, comment LTV-817S
Phototransistor optocoupler; Manufacturer: Lite-On; Manufacturer Part Number: LTV-817S-TA1; Populate: Yes; Intended footprint: LITEON LTV-817; CAD status: Reusable reviewed symbol; pin/pad check performed by refresh. Native ERC, PCB ECO and 3D mechanical inspection still required.; Value: LTV-817S-TA1; Component refresh: 2026-09-10 sourced-symbol pass; not manufacturing release; Symbol source: Celestial / Mark Harris / SCH - OPTOISOLATORS - OPTOISOLATOR.SCHLIB / Optoisolator; Symbol adaptation: Import Celestial symbol artwork; retain physical pin identities and positions; lead extensions adapt the symbol to existing wiring.; Package: SMD4; Footprint source: Celestial Altium Library / Mark Harris / https://altiumlibrary.com; Valor: LTV-817S; Part Number: LTV-817S-TA1
footprint LITEON LTV-817
pins: 1 A, 2 K, 3 E, 4 C (oc)

## LTV-817S-TA1__U4_view
designator U?, comment LTV-817S
Phototransistor optocoupler; Manufacturer: Lite-On; Manufacturer Part Number: LTV-817S-TA1; Populate: Yes; Intended footprint: LITEON LTV-817; CAD status: Reusable reviewed symbol; pin/pad check performed by refresh. Native ERC, PCB ECO and 3D mechanical inspection still required.; Value: LTV-817S-TA1; Component refresh: 2026-09-10 sourced-symbol pass; not manufacturing release; Symbol source: Celestial / Mark Harris / SCH - OPTOISOLATORS - OPTOISOLATOR.SCHLIB / Optoisolator; Symbol adaptation: Import Celestial symbol artwork; retain physical pin identities and positions; lead extensions adapt the symbol to existing wiring.; Package: SMD4; Footprint source: Celestial Altium Library / Mark Harris / https://altiumlibrary.com; Valor: LTV-817S; Part Number: LTV-817S-TA1
footprint LITEON LTV-817
pins: 1 A, 2 K, 3 E, 4 C (oc)

## LTV-817S-TA1__U5_view
designator U?, comment LTV-817S
Phototransistor optocoupler; Manufacturer: Lite-On; Manufacturer Part Number: LTV-817S-TA1; Populate: Yes; Intended footprint: LITEON LTV-817; CAD status: Reusable reviewed symbol; pin/pad check performed by refresh. Native ERC, PCB ECO and 3D mechanical inspection still required.; Value: LTV-817S-TA1; Component refresh: 2026-09-10 sourced-symbol pass; not manufacturing release; Symbol source: Celestial / Mark Harris / SCH - OPTOISOLATORS - OPTOISOLATOR.SCHLIB / Optoisolator; Symbol adaptation: Import Celestial symbol artwork; retain physical pin identities and positions; lead extensions adapt the symbol to existing wiring.; Package: SMD4; Footprint source: Celestial Altium Library / Mark Harris / https://altiumlibrary.com; Valor: LTV-817S; Part Number: LTV-817S-TA1
footprint LITEON LTV-817
pins: 1 A, 2 K, 3 E, 4 C (oc)

## MF-MSMF110_24X-2__F1_view
designator F?, comment 1.1A PTC / 24V
Resettable 12 V input fuse; Manufacturer: Bourns; Manufacturer Part Number: MF-MSMF110/24X-2; Populate: Yes; Intended footprint: BOURNS_MFMSMF110_24X_STYLE2; CAD status: Reusable reviewed symbol; pin/pad check performed by refresh. Native ERC, PCB ECO and 3D mechanical inspection still required.; Value: MF-MSMF110/24X-2; Component refresh: 2026-09-10 sourced-symbol pass; not manufacturing release; Symbol source: Celestial / Mark Harris / SCH - PASSIVES - THERMISTOR PTC.SCHLIB / Thermistor PTC; Symbol adaptation: Import Celestial symbol artwork; retain physical pin identities and positions; lead extensions adapt the symbol to existing wiring.; Package: F1812; Footprint source: Local PinRepairFootprints.PcbLib; source and polarity checked; Part Number: MF-MSMF110/24X-2; Voltage rating: 24 V
footprint BOURNS_MFMSMF110_24X_STYLE2
pins: 1, 2

## OKI-78SR-5_1_5-W36-C__A2_view
designator A?, comment OKI-78SR-5/1.5-W36-C
12 V to regulated 5 V DC/DC module; Manufacturer: Murata; Populate: Yes; Intended footprint: MURATA_OKI78SR_VERTICAL; CAD status: Reusable reviewed symbol; pin/pad check performed by refresh. Native ERC, PCB ECO and 3D mechanical inspection still required.; Symbol provenance: Project-authored native Altium library; based on identified manufacturer part and pinout, not vendor-issued CAD; Component refresh: 2026-09-10 sourced-symbol pass; not manufacturing release; Symbol adaptation: Keep existing part-specific symbol; package and procurement metadata retained.; Manufacturer Part Number: OKI-78SR-5/1.5-W36-C; Package: SIP3_BUCK; Datasheet: https://www.murata.com/products/productdata/8807037992990/oki-78sr.pdf; Part Number: OKI-78SR-5/1.5-W36-C; Value: OKI-78SR-5/1.5-W36-C
footprint MURATA_OKI78SR_VERTICAL
pins: 1 VIN, 2 GND, 3 VOUT
text: DC

## RC0805FR-071KL__R7_view
designator R?, comment 1k
Input current limit; Part number: RC0805FR-071KL; Manufacturer: Yageo; Symbol source: Project-authored IEC resistor view; exact Yageo MPN and Celestial footprint retained; Intended footprint: YAGEO RES 0805_2012; CAD status: Reusable reviewed symbol; pin/pad check performed by refresh. Native ERC, PCB ECO and 3D mechanical inspection still required.; Component refresh: 2026-09-10 sourced-symbol pass; not manufacturing release; Symbol adaptation: Project-authored IEC resistor variant; retain exact Yageo part and Celestial footprint.; Valor: 1k; Manufacturer Part Number: RC0805FR-071KL; Footprint source: Celestial Altium Library / Mark Harris / https://altiumlibrary.com; Value: 1k
footprint YAGEO RES 0805_2012
pins: 1, 2

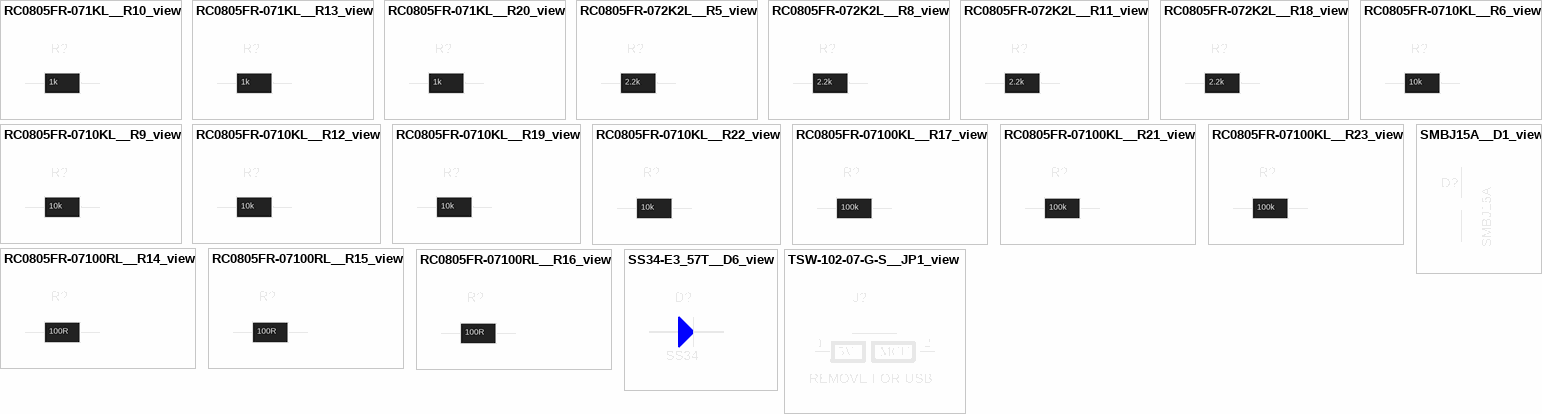
[diagram p1: symbols RC0805FR-071KL__R10_view to TSW-102-07-G-S__JP1_view]

## RC0805FR-071KL__R10_view
designator R?, comment 1k
Input current limit; Part number: RC0805FR-071KL; Manufacturer: Yageo; Symbol source: Project-authored IEC resistor view; exact Yageo MPN and Celestial footprint retained; Intended footprint: YAGEO RES 0805_2012; CAD status: Reusable reviewed symbol; pin/pad check performed by refresh. Native ERC, PCB ECO and 3D mechanical inspection still required.; Component refresh: 2026-09-10 sourced-symbol pass; not manufacturing release; Symbol adaptation: Project-authored IEC resistor variant; retain exact Yageo part and Celestial footprint.; Valor: 1k; Manufacturer Part Number: RC0805FR-071KL; Footprint source: Celestial Altium Library / Mark Harris / https://altiumlibrary.com; Value: 1k
footprint YAGEO RES 0805_2012
pins: 1, 2

## RC0805FR-071KL__R13_view
designator R?, comment 1k
Input current limit; Part number: RC0805FR-071KL; Manufacturer: Yageo; Symbol source: Project-authored IEC resistor view; exact Yageo MPN and Celestial footprint retained; Intended footprint: YAGEO RES 0805_2012; CAD status: Reusable reviewed symbol; pin/pad check performed by refresh. Native ERC, PCB ECO and 3D mechanical inspection still required.; Component refresh: 2026-09-10 sourced-symbol pass; not manufacturing release; Symbol adaptation: Project-authored IEC resistor variant; retain exact Yageo part and Celestial footprint.; Valor: 1k; Manufacturer Part Number: RC0805FR-071KL; Footprint source: Celestial Altium Library / Mark Harris / https://altiumlibrary.com; Value: 1k
footprint YAGEO RES 0805_2012
pins: 1, 2

## RC0805FR-071KL__R20_view
designator R?, comment 1k
Input current limit; Part number: RC0805FR-071KL; Manufacturer: Yageo; Symbol source: Project-authored IEC resistor view; exact Yageo MPN and Celestial footprint retained; Intended footprint: YAGEO RES 0805_2012; CAD status: Reusable reviewed symbol; pin/pad check performed by refresh. Native ERC, PCB ECO and 3D mechanical inspection still required.; Component refresh: 2026-09-10 sourced-symbol pass; not manufacturing release; Symbol adaptation: Project-authored IEC resistor variant; retain exact Yageo part and Celestial footprint.; Valor: 1k; Manufacturer Part Number: RC0805FR-071KL; Footprint source: Celestial Altium Library / Mark Harris / https://altiumlibrary.com; Value: 1k
footprint YAGEO RES 0805_2012
pins: 1, 2

## RC0805FR-072K2L__R5_view
designator R?, comment 2.2k
Optocoupler LED current limit; Part number: RC0805FR-072K2L; Manufacturer: Yageo; Symbol source: Project-authored IEC resistor view; exact Yageo MPN and Celestial footprint retained; Intended footprint: YAGEO RES 0805_2012; CAD status: Reusable reviewed symbol; pin/pad check performed by refresh. Native ERC, PCB ECO and 3D mechanical inspection still required.; Component refresh: 2026-09-10 sourced-symbol pass; not manufacturing release; Symbol adaptation: Project-authored IEC resistor variant; retain exact Yageo part and Celestial footprint.; Valor: 2.2k; Manufacturer Part Number: RC0805FR-072K2L; Footprint source: Celestial Altium Library / Mark Harris / https://altiumlibrary.com; Value: 2.2k
footprint YAGEO RES 0805_2012
pins: 1, 2

## RC0805FR-072K2L__R8_view
designator R?, comment 2.2k
Optocoupler LED current limit; Part number: RC0805FR-072K2L; Manufacturer: Yageo; Symbol source: Project-authored IEC resistor view; exact Yageo MPN and Celestial footprint retained; Intended footprint: YAGEO RES 0805_2012; CAD status: Reusable reviewed symbol; pin/pad check performed by refresh. Native ERC, PCB ECO and 3D mechanical inspection still required.; Component refresh: 2026-09-10 sourced-symbol pass; not manufacturing release; Symbol adaptation: Project-authored IEC resistor variant; retain exact Yageo part and Celestial footprint.; Valor: 2.2k; Manufacturer Part Number: RC0805FR-072K2L; Footprint source: Celestial Altium Library / Mark Harris / https://altiumlibrary.com; Value: 2.2k
footprint YAGEO RES 0805_2012
pins: 1, 2

## RC0805FR-072K2L__R11_view
designator R?, comment 2.2k
Optocoupler LED current limit; Part number: RC0805FR-072K2L; Manufacturer: Yageo; Symbol source: Project-authored IEC resistor view; exact Yageo MPN and Celestial footprint retained; Intended footprint: YAGEO RES 0805_2012; CAD status: Reusable reviewed symbol; pin/pad check performed by refresh. Native ERC, PCB ECO and 3D mechanical inspection still required.; Component refresh: 2026-09-10 sourced-symbol pass; not manufacturing release; Symbol adaptation: Project-authored IEC resistor variant; retain exact Yageo part and Celestial footprint.; Valor: 2.2k; Manufacturer Part Number: RC0805FR-072K2L; Footprint source: Celestial Altium Library / Mark Harris / https://altiumlibrary.com; Value: 2.2k
footprint YAGEO RES 0805_2012
pins: 1, 2

## RC0805FR-072K2L__R18_view
designator R?, comment 2.2k
Optocoupler LED current limit; Part number: RC0805FR-072K2L; Manufacturer: Yageo; Symbol source: Project-authored IEC resistor view; exact Yageo MPN and Celestial footprint retained; Intended footprint: YAGEO RES 0805_2012; CAD status: Reusable reviewed symbol; pin/pad check performed by refresh. Native ERC, PCB ECO and 3D mechanical inspection still required.; Component refresh: 2026-09-10 sourced-symbol pass; not manufacturing release; Symbol adaptation: Project-authored IEC resistor variant; retain exact Yageo part and Celestial footprint.; Valor: 2.2k; Manufacturer Part Number: RC0805FR-072K2L; Footprint source: Celestial Altium Library / Mark Harris / https://altiumlibrary.com; Value: 2.2k
footprint YAGEO RES 0805_2012
pins: 1, 2

## RC0805FR-0710KL__R6_view
designator R?, comment 10k
Pull-up earns unsafe if optocoupler is off; Part number: RC0805FR-0710KL; Manufacturer: Yageo; Symbol source: Project-authored IEC resistor view; exact Yageo MPN and Celestial footprint retained; Intended footprint: YAGEO RES 0805_2012; CAD status: Reusable reviewed symbol; pin/pad check performed by refresh. Native ERC, PCB ECO and 3D mechanical inspection still required.; Component refresh: 2026-09-10 sourced-symbol pass; not manufacturing release; Symbol adaptation: Project-authored IEC resistor variant; retain exact Yageo part and Celestial footprint.; Valor: 10k; Manufacturer Part Number: RC0805FR-0710KL; Footprint source: Celestial Altium Library / Mark Harris / https://altiumlibrary.com; Value: 10k
footprint YAGEO RES 0805_2012
pins: 1, 2

## RC0805FR-0710KL__R9_view
designator R?, comment 10k
Pull-up earns unsafe if optocoupler is off; Part number: RC0805FR-0710KL; Manufacturer: Yageo; Symbol source: Project-authored IEC resistor view; exact Yageo MPN and Celestial footprint retained; Intended footprint: YAGEO RES 0805_2012; CAD status: Reusable reviewed symbol; pin/pad check performed by refresh. Native ERC, PCB ECO and 3D mechanical inspection still required.; Component refresh: 2026-09-10 sourced-symbol pass; not manufacturing release; Symbol adaptation: Project-authored IEC resistor variant; retain exact Yageo part and Celestial footprint.; Valor: 10k; Manufacturer Part Number: RC0805FR-0710KL; Footprint source: Celestial Altium Library / Mark Harris / https://altiumlibrary.com; Value: 10k
footprint YAGEO RES 0805_2012
pins: 1, 2